# EAGLE library part AK4495 (library Fugu_LSI)
Quality-oriented Premium 32-Bit 2ch DAC
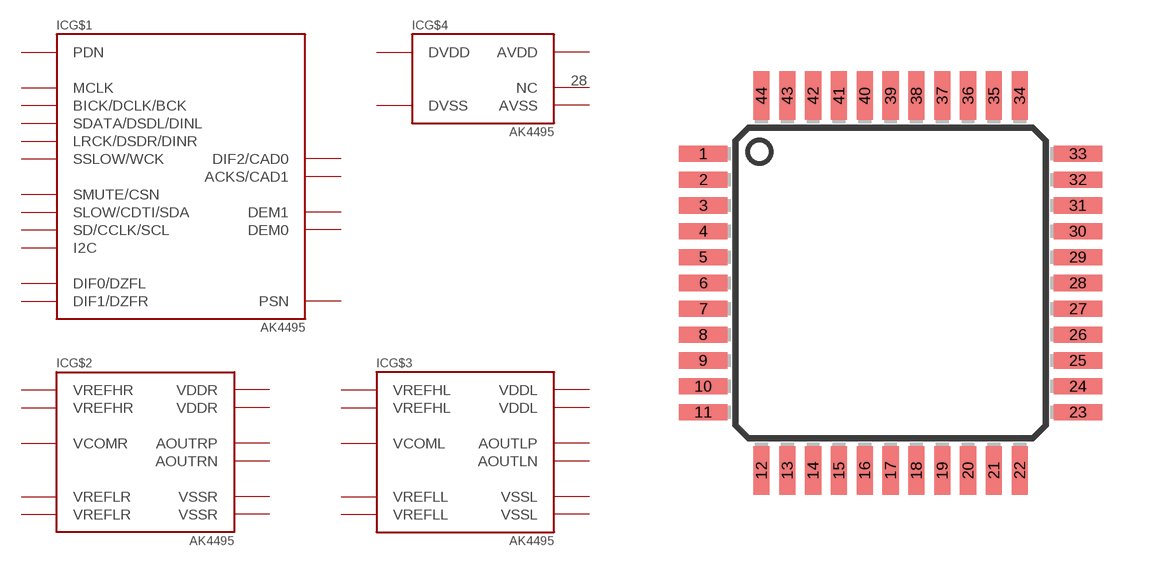
[diagram p10: symbol with the pads of TQFP44; footprint TQFP44]

Designator prefix IC; gates G$1=AK4495_IO G$3=AK4495_ANALOG_L G$4=AK4495_SUPPLY G$2=AK4495_ANALOG_R

## AK4495  [TQFP44]
1  G$1:PDN
2  G$1:BICK/DCLK/BCK
3  G$1:SDATA/DSDL/DINL
4  G$1:LRCK/DSDR/DINR
5  G$1:SSLOW/WCK
6  G$1:SMUTE/CSN
7  G$1:SD/CCLK/SCL
8  G$1:SLOW/CDTI/SDA
9  G$1:DIF0/DZFL
10  G$1:DIF1/DZFR
11  G$1:DIF2/CAD0
12  G$1:PSN
13  G$1:I2C
14  G$1:DEM0
15  G$1:DEM1
16  G$1:ACKS/CAD1
17  G$2:VREFHR  pwr
18  G$2:VREFHR  pwr
19  G$2:VREFLR  pwr
20  G$2:VREFLR  pwr
21  G$2:VCOMR  out
22  G$2:AOUTRP  out
23  G$2:AOUTRN  out
24  G$2:VDDR  pwr
25  G$2:VDDR  pwr
26  G$2:VSSR  pwr
27  G$2:VSSR  pwr
28  G$4:NC
29  G$3:VSSL  pwr
30  G$3:VSSL  pwr
31  G$3:VDDL  pwr
32  G$3:VDDL  pwr
33  G$3:AOUTLN  out
34  G$3:AOUTLP  out
35  G$3:VCOML  out
36  G$3:VREFLL  pwr
37  G$3:VREFLL  pwr
38  G$3:VREFHL  pwr
39  G$3:VREFHL  pwr
40  G$4:AVDD  pwr
41  G$4:AVSS  pwr
42  G$1:MCLK
43  G$4:DVSS  pwr
44  G$4:DVDD  pwr

## Footprint TQFP44 (pad centres in mm)
44-lead Thin Quad Flat Package
smd 1.5 x 0.5: 1 -5.8,4; 2 -5.8,3.2; 3 -5.8,2.4; 4 -5.8,1.6; 5 -5.8,0.8; 6 -5.8,0; 7 -5.8,-0.8; 8 -5.8,-1.6; 9 -5.8,-2.4; 10 -5.8,-3.2; 11 -5.8,-4; 23 5.8,-4; 24 5.8,-3.2; 25 5.8,-2.4; 26 5.8,-1.6; 27 5.8,-0.8; 28 5.8,0; 29 5.8,0.8; 30 5.8,1.6; 31 5.8,2.4; 32 5.8,3.2; 33 5.8,4
smd 0.5 x 1.5: 12 -4,-5.8; 13 -3.2,-5.8; 14 -2.4,-5.8; 15 -1.6,-5.8; 16 -0.8,-5.8; 17 0,-5.8; 18 0.8,-5.8; 19 1.6,-5.8; 20 2.4,-5.8; 21 3.2,-5.8; 22 4,-5.8; 34 4,5.8; 35 3.2,5.8; 36 2.4,5.8; 37 1.6,5.8; 38 0.8,5.8; 39 0,5.8; 40 -0.8,5.8; 41 -1.6,5.8; 42 -2.4,5.8; 43 -3.2,5.8; 44 -4,5.8